# Altium schematic symbol library Hw_Lib1.SchLib: 20 symbols
Pins are listed as number, name and electrical type; pins without a type are passive.

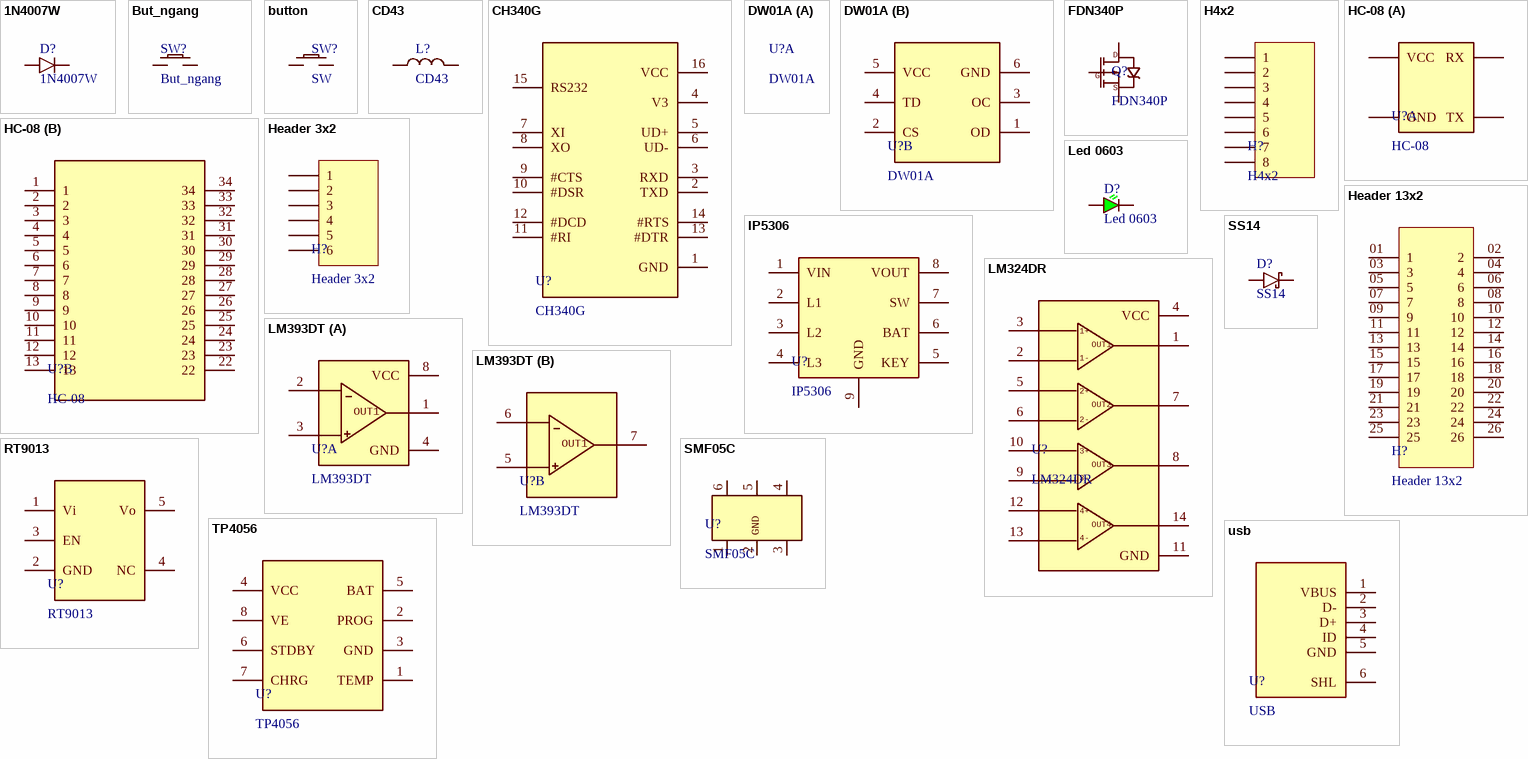
[diagram p0: symbols 1N4007W to usb]

## 1N4007W
designator D?
footprint SODFL3818X130N
pins: 1, 2

## But_ngang
designator SW?
https://www.thegioiic.com/nut-nhan-3x6mm-cao-3-5mm-4-chan-smd-chinh-ngang
footprint But_ngang
pins: 1 10, 2 11

## button
designator SW?, comment SW
https://www.thegioiic.com/nut-nhan-3x6mm-cao-2-5mm-2-chan-smd-dau-do
footprint SW
pins: 1 10, 2 11

## CD43
designator L?
https://www.thegioiic.com/cuon-cam-dan-smd-cd43-4532-1r0-1uh-2-7a
footprint CD43
pins: 1 9, 2 10

## CH340G
designator U?
footprint CH340G
pins: 1 GND, 2 TXD, 3 RXD, 4 V3, 5 UD+, 6 UD-, 7 XI, 8 XO, 9 #CTS, 10 #DSR, 11 #RI, 12 #DCD, 13 #DTR, 14 #RTS, 15 RS232, 16 VCC

## DW01A
designator U?
footprint SOT95P280X145-6N
part B pins: 1 OD, 2 CS, 3 OC, 4 TD, 5 VCC, 6 GND

## FDN340P
designator Q?
footprint FDN340P
pins: 1 3, 2, 3 4
text: D; G; S

## H4x2
designator H?
footprint H4x2
pins: 01 1, 02 2, 03 3, 04 4, 05 5, 06 6, 07 7, 08 8

## HC-08
designator U?
footprint HC-08
part A pins: 14 VCC, 15 GND, 16 RX, 17 TX
part B pins: 1, 2, 3, 4, 5, 6, 7, 8, 9, 10, 11, 12, 13, 22, 23, 24, 25, 26, 27, 28, 29, 30, 31, 32, 33, 34

## Header 3x2
designator H?
footprint H3x2
pins: 01 1, 02 2, 03 3, 04 4, 05 5, 06 6

## Header 13x2
designator H?
footprint header 13x2
pins: 01 1, 02 2, 03 3, 04 4, 05 5, 06 6, 07 7, 08 8, 09 9, 10, 11, 12, 13, 14, 15, 16, 17, 18, 19, 20, 21, 22, 23, 24, 25, 26

## IP5306
designator U?
footprint IP5306
pins: 1 VIN, 2 L1, 3 L2, 4 L3, 5 KEY, 6 BAT, 7 SW, 8 VOUT, 9 GND

## Led 0603
designator D?
footprint LED 0603
pins: 1, 2

## LM324DR
designator U?
footprint SOIC127P600X175-14N
pins: 1 OUT1, 2 IN1-, 3 IN1+, 4 VCC, 5 IN2+, 6 IN2-, 7 OUT2, 8 OUT3, 9 IN3-, 10 IN3+, 11 GND, 12 IN4+, 13 IN4-, 14 OUT4
text: 1+; 1-; 2+; 2-; 3+; 3-; 4+; 4-

## LM393DT
designator U?
footprint SOIC8
part A pins: 1, 2, 3, 4 GND, 8 VCC
part B pins: 5 6, 6 2, 7 1
part A text: OUT1
part B text: OUT1

## RT9013
designator U?
footprint RT9013
pins: 1 Vi, 2 GND, 3 EN, 4 NC, 5 Vo

## SMF05C
designator U?
https://www.thegioiic.com/products?search=smf05
footprint SOT-363
pins: 1 IN1, 2 GND, 3 IN2, 4 IN3, 5 IN4, 6 IN4

## SS14
designator D?
footprint SS14
pins: 1, 2

## TP4056
designator U?
footprint SOP127P600X175-9N
pins: 1 TEMP, 2 PROG, 3 GND, 4 VCC, 5 BAT, 6 STDBY, 7 CHRG, 8 VE

## usb
designator U?, comment USB
https://www.thegioiic.com/cong-usb-micro-b-2-0-dau-cai-5-chan-smd-v1
footprint USB
pins: 1 VBUS, 2 D-, 3 D+, 4 ID, 5 GND, 6 SHL